# Altium footprint library PCB - CONNECTOR - SAMTEC SFM-104-YY-ZZZ-D-A.PCBLIB: 1 footprints
Each footprint in its own frame and in the unit in brackets; x right, y up, seen from the top. Pads: shape width x height; smd on the part's side, far side on the other; paste and mask are expansions set on the pad; w line width, h text height; cw(c..) or ccw(c..) is an arc to the next point about the centre after c.
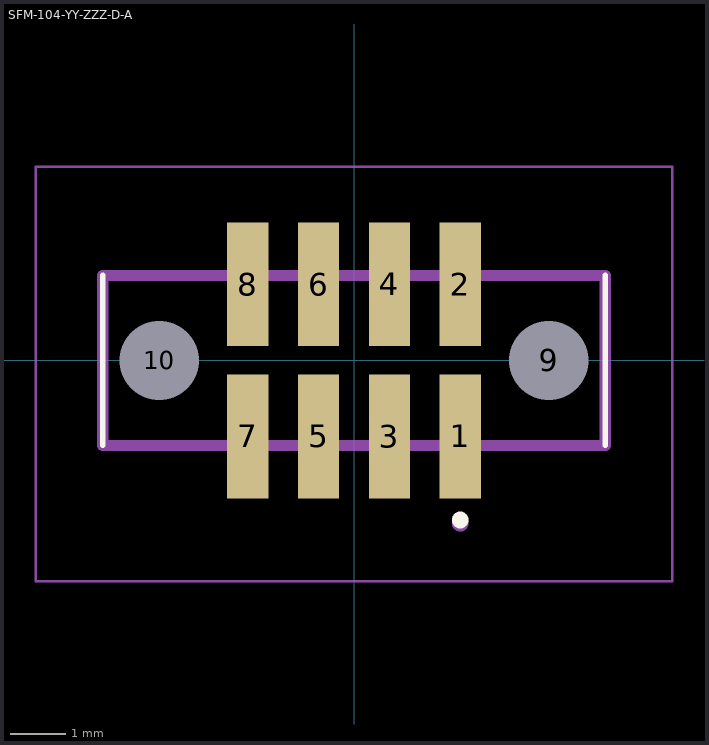
[diagram p0: the footprint, top view; thin cyan lines are the x and y axes]

## SFM-104-YY-ZZZ-D-A [mm]
pads (10):
  rect 0.74x2.22 smd: 1(1.905,-1.365) 2(1.905,1.365) 3(0.635,-1.365) 4(0.635,1.365) 5(-0.635,-1.365) 6(-0.635,1.365) 7(-1.905,-1.365) 8(-1.905,1.365)
  round 0.71 hole 1.42 unplated: 9(3.495,0) 10(-3.495,0)
Top Overlay:
  circle w0.2: c1.905,-2.865 r0.05
  lines w0.1: -4.51,-1.525 -4.51,1.525 ; 4.51,-1.525 4.51,1.525
Top Assembly:
  circle w0.2: c1.905,-2.921 r0.05
  lines w0.2: -4.51,-1.525 -4.51,1.525 4.51,1.525 4.51,-1.525 -4.51,-1.525
Top Courtyard:
  lines w0.05: -5.71,-3.965 -5.71,3.475 5.71,3.475 5.71,-3.965 -5.71,-3.965
Top Designator:
  text ".Designator" at -5.715,5.715 h1
Top Value (Mech13):
  text ".Comment" at -5.715,4.572 h1
3D body "SFM-104-02-L-D-A.stp": height 4.57, standoff -1.26, extent -4.135,-2.082 4.12,2.122